# EAGLE library part SCA610-D14H11 (library OpenEQ)
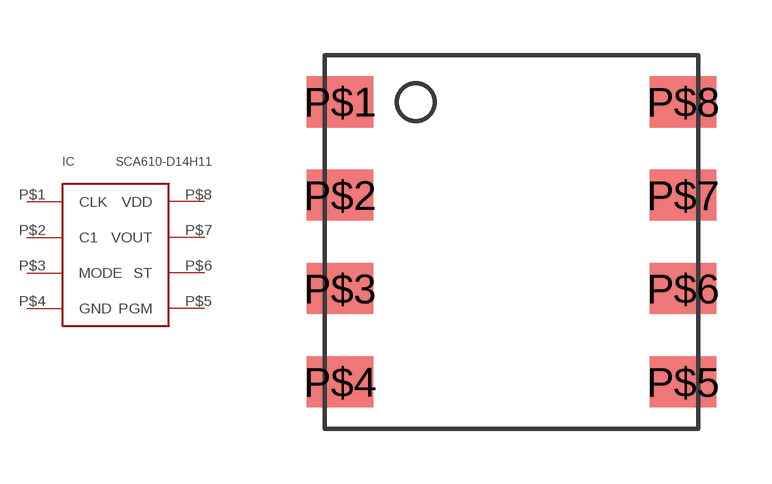
[diagram p0: symbol with the pads of SCA610-D14H1; footprint SCA610-D14H1]

Designator prefix IC

## SCA610-D14H11  [SCA610-D14H1]
P$1  CLK
P$2  C1
P$3  MODE
P$4  GND
P$5  PGM
P$6  ST
P$7  VOUT
P$8  VDD

## Footprint SCA610-D14H1 (pad centres in mm)
ACA610 D14H11 pattern
smd 1.81 x 1.39: P$1 -4.66,3.81; P$2 -4.66,1.27; P$3 -4.66,-1.27; P$4 -4.66,-3.81; P$5 4.66,-3.81; P$6 4.66,-1.27; P$7 4.66,1.27; P$8 4.66,3.81